# Altium integrated library HT4928S.IntLib: 1 symbol
Pins are listed as number, name and electrical type; pins without a type are passive.

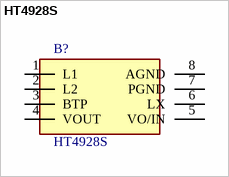
[diagram p0: symbol HT4928S]

## HT4928S
designator B?
vv; Manufacturer_Name: HOTCHIP; Geometry.Height: 1.8mm; Manufacturer_Part_Number: HT4928S; Mouser Part Number: *; Mouser Price/Stock: *; Arrow Part Number: *; Arrow Price/Stock: *; Datasheet Link: http://www.hotchip.com.cn/Uploads/goods/2017-11-03/59fc3d69cabf0.pdf
footprint SOIC127P600X180-8N
footprint SOIC127P600X180-8N
pins: 1 L1, 2 L2, 3 BTP, 4 VOUT, 5 VO/IN, 6 LX, 7 PGND, 8 AGND